# Altium footprint library DYBoard_Transducer_CAN.PcbLib: 1 footprints
Each footprint in its own frame and in the unit in brackets; x right, y up, seen from the top. Pads: shape width x height; smd on the part's side, far side on the other; paste and mask are expansions set on the pad; w line width, h text height; cw(c..) or ccw(c..) is an arc to the next point about the centre after c.
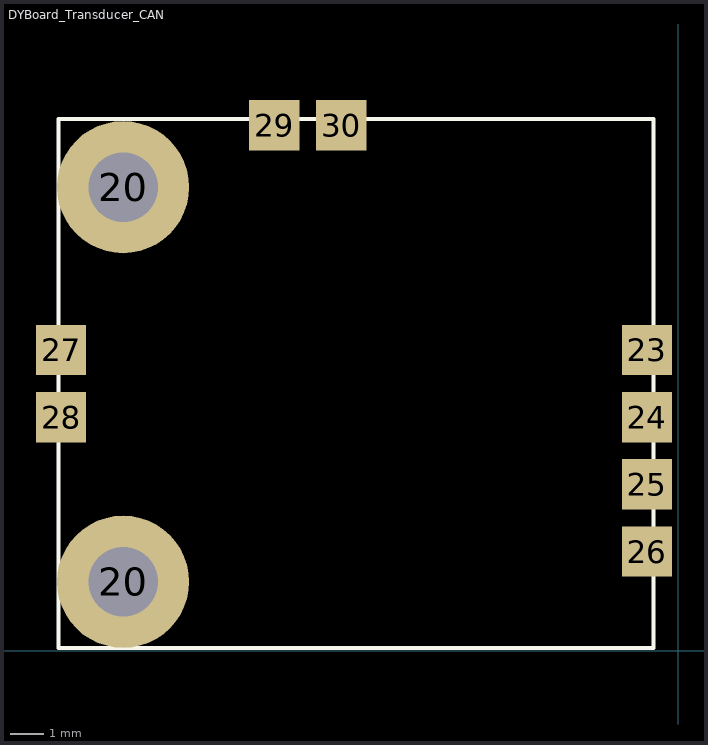
[diagram p0: the footprint, top view; thin cyan lines are the x and y axes]

## DYBoard_Transducer_CAN [mil]
pads (10):
  round 157.48 hole 82.68: 20(-661,82) 20(-661,552)
  rect 60x60 smd: 23(-37.06,358.06) 24(-37.06,278.06) 25(-37.06,198.06) 26(-37.06,118.06) 27(-734.94,358.06) 28(-734.94,278.06) 29(-481,625.94) 30(-401,625.94)
Top Overlay:
  lines w5: -738,3 -738,633 -29.34,633 -29.34,3 -738,3